# EAGLE library part ESP-12E (library PP_Sensors)
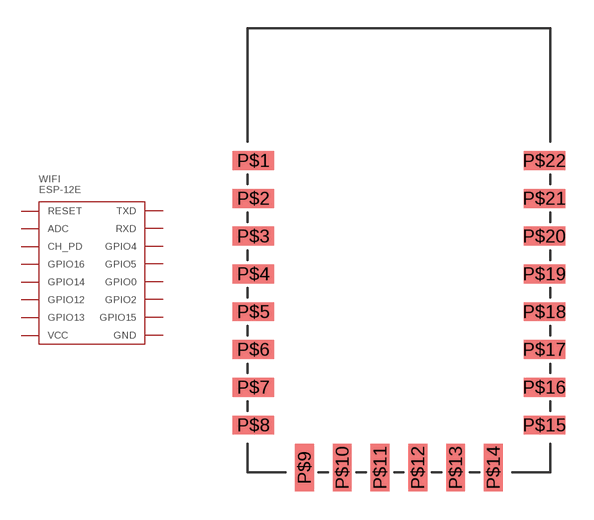
[diagram p3: symbol with the pads of ESP-12E; footprint ESP-12E]

Designator prefix WIFI

## ESP-12E  [ESP-12E]
P$1  RESET
P$2  ADC
P$3  CH_PD
P$4  GPIO16
P$5  GPIO14
P$6  GPIO12
P$7  GPIO13
P$8  VCC
P$15  GND
P$16  GPIO15
P$17  GPIO2
P$18  GPIO0
P$19  GPIO4
P$20  GPIO5
P$21  RXD
P$22  TXD

## Footprint ESP-12E (pad centres in mm)
smd 2.2 x 1: P$1 -7.7,6.905; P$2 -7.7,4.905; P$3 -7.7,2.905; P$4 -7.7,0.905; P$5 -7.7,-1.095; P$6 -7.7,-3.095; P$7 -7.7,-5.095; P$8 -7.7,-7.095; P$15 7.7,-7.095; P$16 7.7,-5.095; P$17 7.7,-3.095; P$18 7.7,-1.095; P$19 7.7,0.905; P$20 7.7,2.905; P$21 7.7,4.905; P$22 7.7,6.905
smd 1 x 2.5: P$9 -5,-9.345; P$10 -3,-9.345; P$11 -1,-9.345; P$12 1,-9.345; P$13 3,-9.345; P$14 5,-9.345